# Altium footprint library RESAD800W55L600D230.PcbLib: 1 footprints
Each footprint in its own frame and in the unit in brackets; x right, y up, seen from the top. Pads: shape width x height; smd on the part's side, far side on the other; paste and mask are expansions set on the pad; w line width, h text height; cw(c..) or ccw(c..) is an arc to the next point about the centre after c.
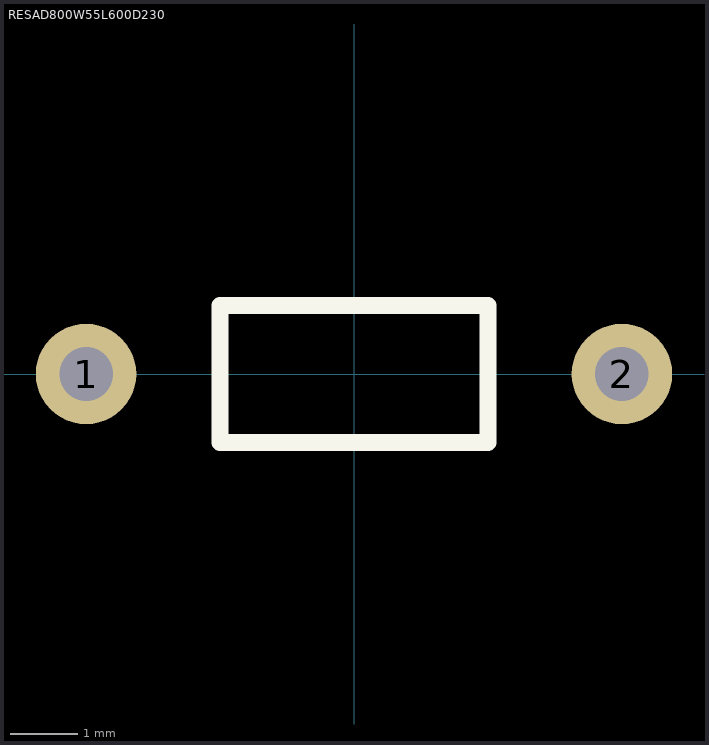
[diagram p0: the footprint, top view; thin cyan lines are the x and y axes]

## RESAD800W55L600D230 [mm] "Resistor Lead Spacing 8mm Len 6mm Dia 2.3mm"
height 2.3
pads (2):
  round 1.5 hole 0.8: 1(-4,0) 2(4,0)
Top Overlay:
  lines w0.254: -2,-1.025 -2,1.025 2,1.025 2,-1.025 -2,-1.025
3D body: height 3.29, standoff 1, extent -3,-1.15 3,1.145